# Altium footprint library PSK-5D.PcbLib: 1 footprints
Each footprint in its own frame and in the unit in brackets; x right, y up, seen from the top. Pads: shape width x height; smd on the part's side, far side on the other; paste and mask are expansions set on the pad; w line width, h text height; cw(c..) or ccw(c..) is an arc to the next point about the centre after c.
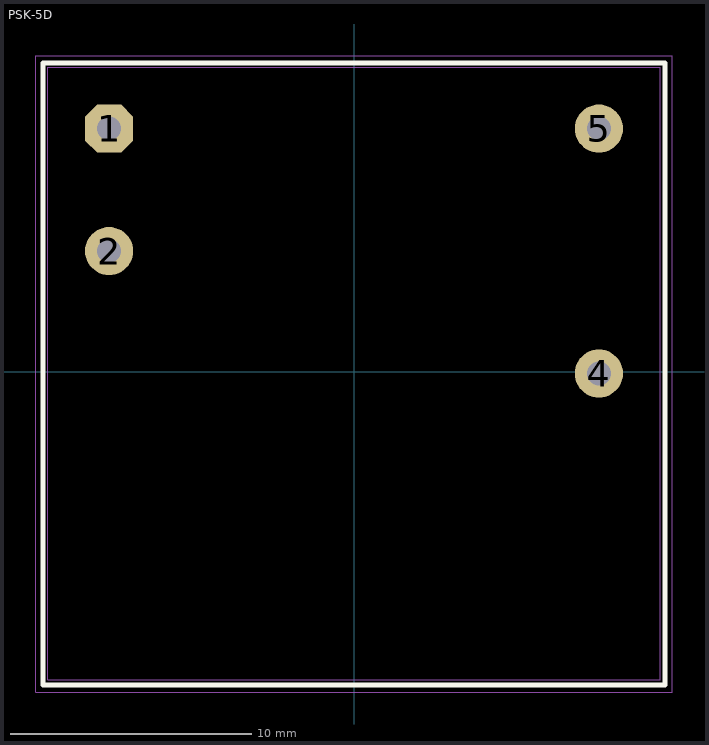
[diagram p0: the footprint, top view; thin cyan lines are the x and y axes]

## PSK-5D [mm]
pads (4):
  oct 2x2 hole 1 mask+0.05: 1(-10.16,10.08)
  round 2 hole 1 mask+0.05: 2(-10.16,5) 4(10.16,-0.08) 5(10.16,10.08)
Top Overlay:
  lines w0.2: -12.9,-13 12.9,-13 12.9,12.8 -12.9,12.8 -12.9,-13
Top Assembly:
  lines w0.05: -12.7,-12.78 -12.7,12.62 12.7,12.62 12.7,-12.78 -12.7,-12.78
Top Courtyard:
  lines w0.05: -13.2,-13.3 -13.2,13.1 13.2,13.1 13.2,-13.3 -13.2,-13.3
3D body "CUI_PSK-5D-5.step": height 17.9, standoff -3.9, extent -12.7,-12.78 12.7,12.62